# Altium footprint library Footprints.PcbLib: 111 footprints (part 6 of 7)
Each footprint in its own frame and in the unit in brackets; x right, y up, seen from the top. Pads: shape width x height; smd on the part's side, far side on the other; paste and mask are expansions set on the pad; w line width, h text height; cw(c..) or ccw(c..) is an arc to the next point about the centre after c.
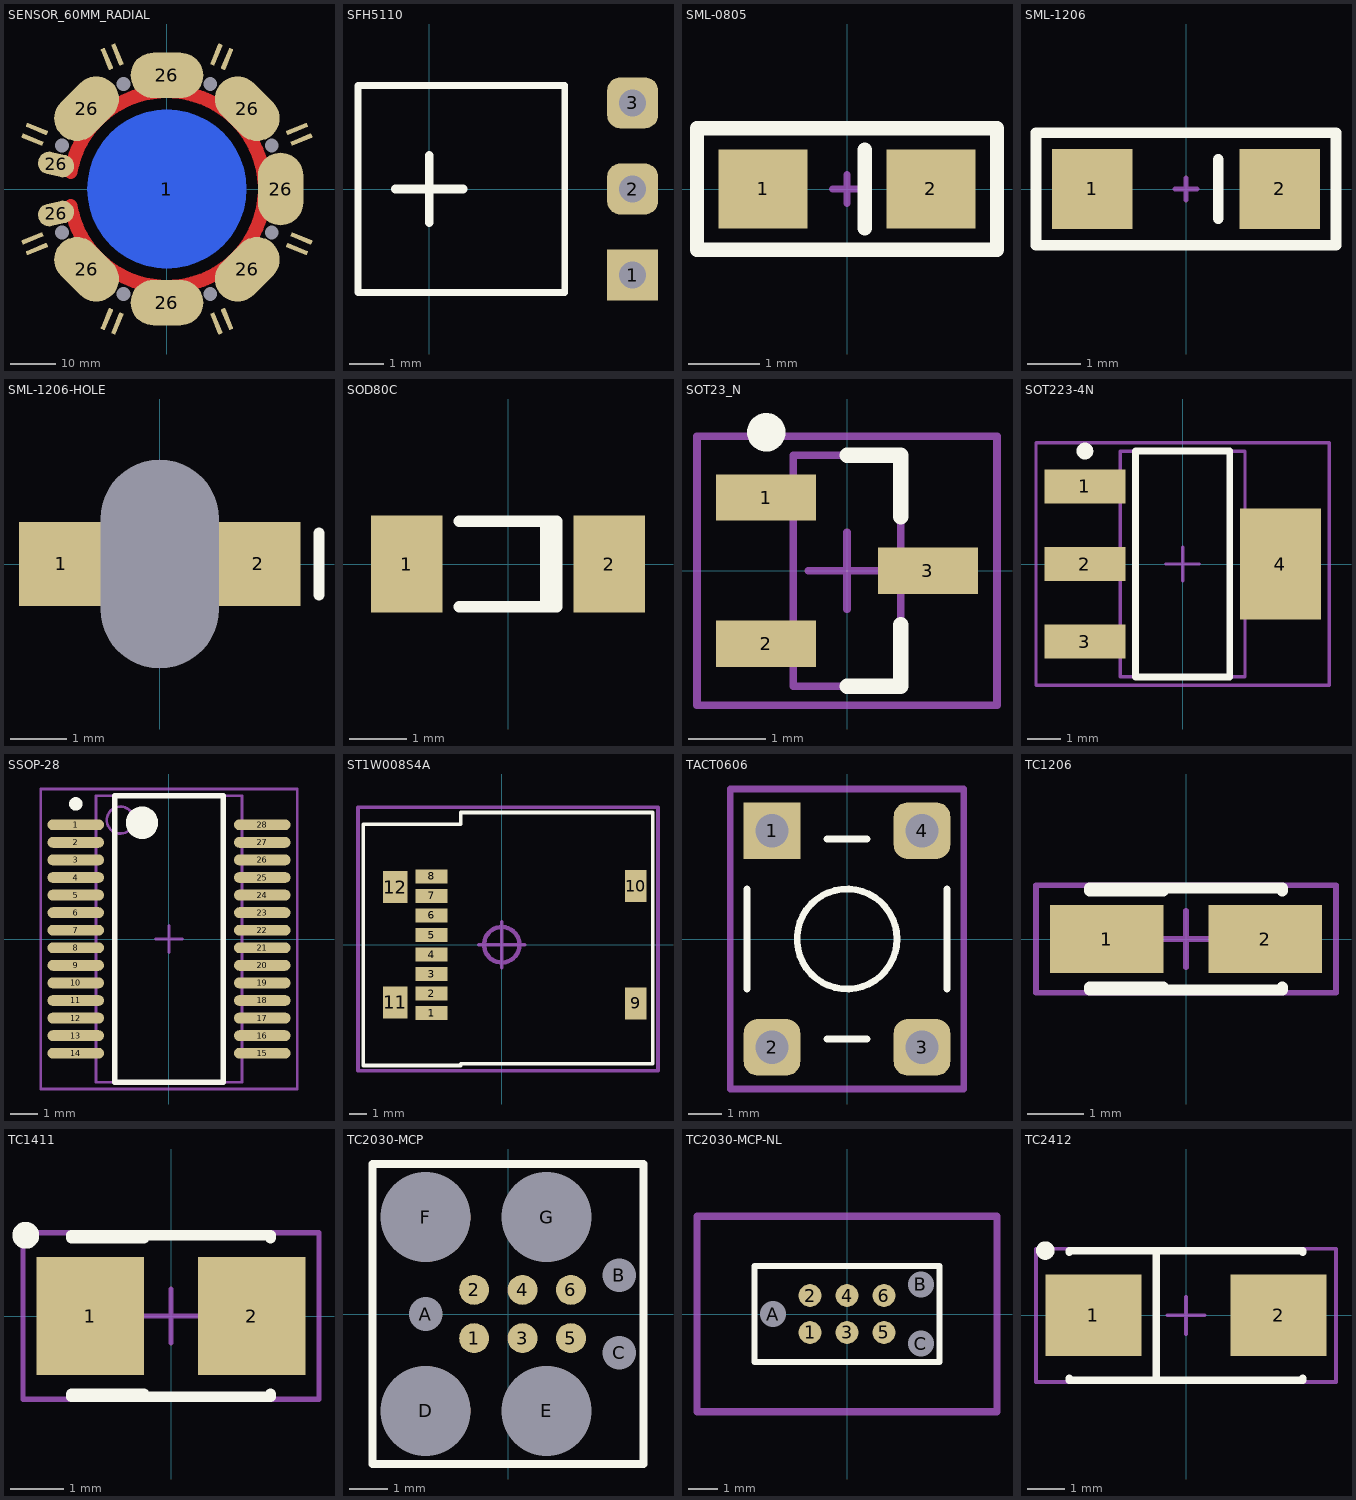
[diagram p5: the footprints below, top view; thin cyan lines are the x and y axes]

## SENSOR_60MM_RADIAL [mm]
pads (34):
  round 35 smd far side: 1(0,0)
  round 0 / inner round 0 / far side oval 18x10 hole 3 unplated: 2(-23.097,9.567) 5(-9.567,23.097) 8(9.567,23.097) 11(23.097,9.567) 14(23.097,-9.567) 17(9.567,-23.097) 20(-9.567,-23.097) 23(-23.097,-9.567)
  rrect50% 1x5 smd rot 67.5: 3(-29.588,10.881) 4(-28.616,13.228) 15(29.588,-10.881) 16(28.616,-13.228)
  rrect50% 1x5 smd rot 22.5: 6(-13.228,28.616) 7(-10.881,29.588) 18(13.228,-28.616) 19(10.881,-29.588)
  rrect50% 1x5 smd rot 157.5: 9(10.881,29.588) 10(13.228,28.616) 21(-10.881,-29.588) 22(-13.228,-28.616)
  rrect50% 1x5 smd rot 112.5: 12(28.616,13.228) 13(29.588,10.881) 24(-28.616,-13.228) 25(-29.588,-10.881)
  oval 5x8 smd rot 102.5: 26(-24.4,-5.4)
  oval 5x8 smd rot 77.5: 26(-24.4,5.4)
  oval 16x10 smd rot 135: 26(-17.678,-17.678) 26(17.678,17.678)
  oval 16x10 smd rot 45: 26(-17.678,17.678) 26(17.678,-17.678)
  oval 16x10 smd: 26(0,-25) 26(0,25)
  oval 10x16 smd: 26(25,0)
Top Layer:
  lines w3: -21.173,-3.733 ccw(c0,0) -21.173,3.733
3D body: height 2, standoff -1, extent -24.582,-11.061 -21.597,-8.073
3D body: height 2, standoff -1, extent -11.051,21.604 -8.067,24.591
3D body: height 2, standoff -1, extent 8.083,21.604 11.067,24.591
3D body: height 2, standoff -1, extent 21.613,8.074 24.598,11.061
3D body: height 2, standoff -1, extent 21.613,-11.061 24.597,-8.073
3D body: height 2, standoff -1, extent 8.083,-24.591 11.067,-21.604
3D body: height 2, standoff -1, extent -11.051,-24.59 -8.067,-21.603
3D body: height 2, standoff -1, extent -24.581,8.074 -21.597,11.061

## SFH5110 [mm] "IR-Receiver"
height 4.9
pads (3):
  rect 1.5x1.5 hole 0.8: 1(6,-2.54)
  rrect50% 1.5x1.5 hole 0.8: 2(6,0) 3(6,2.54)
Top Overlay:
  lines w0.2: -2.1,-3.05 -2.1,3.05 4,3.05 4,-3.05 -2.1,-3.05
  lines w0.254: -1,0 1,0 ; 0,-1 0,1
3D body: height 0.5, standoff 0, extent 4,2.29 6,2.789
3D body: height 0.5, standoff 0, extent 4,-0.25 6,0.249
3D body: height 0.5, standoff 0, extent 4,-2.79 6,-2.291
3D body: height 5.1, standoff 0.9, extent -2.1,-2.1 2.078,2.082
3D body: height 3, standoff 0, extent -2.1,-3.05 4,3.05

## SML-0805 [mm] "SM LED"
height 0.8
pads (2):
  rect 1.25x1.1 smd: 1(-1.175,0) 2(1.175,0)
Top Overlay:
  lines w0.2: 0.25,-0.55 0.25,0.55 ; -2.1,-0.85 -2.1,0.85 2.1,0.85 2.1,-0.85 -2.1,-0.85
Mechanical 1:
  lines w0.1: -0.2,0 0.2,0 ; 0,-0.2 0,0.2
3D body: height 0.8, standoff 0, extent -1.1,-0.625 1.1,0.625

## SML-1206 [mm] "SM LED"
height 1.1
pads (2):
  rect 1.5x1.5 smd: 1(-1.75,0) 2(1.75,0)
Top Overlay:
  lines w0.2: 0.6,-0.55 0.6,0.55 ; -2.8,-1.05 2.8,-1.05 2.8,1.05 -2.8,1.05 -2.8,-1.05
Mechanical 1:
  lines w0.1: -0.2,0 0.2,0 ; 0,-0.2 0,0.2
3D body: height 1.1, standoff 0, extent -1.6,-0.8 1.6,0.8

## SML-1206-HOLE [mm] "SM LED throw hole"
height 1.1
pads (3):
  round 0 hole 2.1 slot 3.7 at 90 deg unplated: 0(0,0)
  rect 1.5x1.5 smd: 1(-1.75,0) 2(1.75,0)
Top Overlay:
  lines w0.2: 2.83,-0.55 2.83,0.55
3D body: height 1.1, standoff 0, extent -1.6,-0.8 1.6,0.8

## SOD80C [mm] "Metal Electrode Face (MELF) Diode; Body 3.6 x 1.5 mm (LxDia)"
height 1.6
pads (2):
  rect 1.25x1.7 smd: 1(-1.775,0) 2(1.775,0)
Top Overlay:
  lines w0.2: -0.85,-0.75 0.85,-0.75 0.85,0.75 -0.85,0.75 ; 0.66,-0.75 0.66,0.75
3D body: height 1.49, standoff 0, extent -1.8,-0.75 1.8,0.747

## SOT23_N [mm] "SOT23, 3-Leads, Body 2.9x1.3mm, Pitch 0.95mm, Lead Span 2.3mm, IPC Medium Density"
height 1.1
pads (3):
  rect 1.3x0.6 smd: 1(-1.05,0.95) 2(-1.05,-0.95) 3(1.05,0)
Top Overlay:
  circle w0.25: c-1.05,1.8 r0.125
  lines w0.2: 0,-1.5 0.7,-1.5 0.7,-0.7 ; 0,1.5 0.7,1.5 0.7,0.7
Mechanical 1:
  lines w0.1: -0.7,-1.5 0.7,-1.5 0.7,1.5 -0.7,1.5 -0.7,-1.5
Mechanical 3:
  lines w0.1: -0.5,0 0.5,0 ; 0,-0.5 0,0.5 ; -1.95,-1.75 1.95,-1.75 1.95,1.75 -1.95,1.75 -1.95,-1.75
3D body: height 1.1, standoff 0, extent -0.7,-1.5 0.7,1.5

## SOT223-4N [mm] "SOT223, 4-Leads, Body 6.5x3.5mm, Pitch 2.3mm, Lead Span 7mm, IPC Medium Density"
height 1.8
pads (4):
  rect 2.4x1 smd: 1(-2.9,2.3) 2(-2.9,0) 3(-2.9,-2.3)
  rect 2.4x3.3 smd: 4(2.9,0)
Top Overlay:
  circle w0.25: c-2.9,3.35 r0.125
  lines w0.2: -1.4,-3.35 1.4,-3.35 1.4,3.35 -1.4,3.35 -1.4,-3.35
Mechanical 1:
  lines w0.1: -1.85,-3.35 1.85,-3.35 1.85,3.35 -1.85,3.35 -1.85,-3.35
Mechanical 3:
  lines w0.1: -0.5,0 0.5,0 ; 0,-0.5 0,0.5 ; -4.35,-3.6 4.35,-3.6 4.35,3.6 -4.35,3.6 -4.35,-3.6
3D body: height 1.8, standoff 0, extent -1.85,-3.35 1.85,3.35

## SSOP-28 [mm] "28-Pin SSOP 0.65 mm Pitch"
height 2
pads (28):
  oval 2.1x0.4 smd: 1(-3.45,4.225) 2(-3.45,3.575) 3(-3.45,2.925) 4(-3.45,2.275) 5(-3.45,1.625) 6(-3.45,0.975) 7(-3.45,0.325) 8(-3.45,-0.325) 9(-3.45,-0.975) 10(-3.45,-1.625) 11(-3.45,-2.275) 12(-3.45,-2.925) 13(-3.45,-3.575) 14(-3.45,-4.225) 15(3.45,-4.225) 16(3.45,-3.575) 17(3.45,-2.925) 18(3.45,-2.275) 19(3.45,-1.625) 20(3.45,-0.975) 21(3.45,-0.325) 22(3.45,0.325) 23(3.45,0.975) 24(3.45,1.625) 25(3.45,2.275) 26(3.45,2.925) 27(3.45,3.575) 28(3.45,4.225)
Top Overlay:
  circle w0.6: c-1,4.3 r0.3
  circle w0.25: c-3.45,5 r0.125
  lines w0.2: -2,-5.3 2,-5.3 2,5.3 -2,5.3 -2,-5.3
Mechanical 13:
  circle w0.1: c-1.8,4.4 r0.5
  lines w0.1: -2.7,-5.3 2.7,-5.3 2.7,5.3 -2.7,5.3 -2.7,-5.3
Mechanical 15:
  lines w0.1: -0.5,0 0.5,0 ; 0,-0.5 0,0.5 ; -4.75,-5.55 4.75,-5.55 4.75,5.55 -4.75,5.55 -4.75,-5.55
3D body: height 2, standoff 0, extent -2.7,-5.3 2.7,5.3

## ST1W008S4A [mm] "Trans Flash (MicroSD) memory card connector."
height 1.9
pads (12):
  rect 1.8x0.8 smd: 1(-3.95,-3.85) 2(-3.95,-2.75) 3(-3.95,-1.65) 4(-3.95,-0.55) 5(-3.95,0.55) 6(-3.95,1.65) 7(-3.95,2.75) 8(-3.95,3.85)
  rect 1.2x1.8 smd: 9(7.55,-3.3) 10(7.55,3.3)
  rect 1.4x1.8 smd: 11(-6,-3.25) 12(-6,3.25)
Top Overlay:
  lines w0.2: -7.8,-6.8 -7.8,6.8 -2.3,6.8 -2.3,7.45 8.5,7.45 8.5,-6.7 -2.3,-6.7 -2.3,-6.8 -7.8,-6.8
  text "." at -4.03,-5.15 h1
Mechanical 3:
  circle w0.25: c0,0 r1
  lines w0.2: -1.3,0 1.3,0 ; 0,-1.3 0,1.3 ; -8.1,-7.1 8.8,-7.1 8.8,7.75 -8.1,7.75 -8.1,-7.1
3D body: height 1.9, standoff 0, extent -7.8,-6.8 -2.3,6.8
3D body: height 1.9, standoff 0, extent -2.3,-6.7 8.5,7.45

## TACT0606 [mm] "TACT switch 6x6mm"
height 9
pads (4):
  rect 1.7x1.7 hole 1: 1(-2.25,3.25)
  rrect50% 1.7x1.7 hole 1: 2(-2.25,-3.25) 3(2.25,-3.25) 4(2.25,3.25)
Top Overlay:
  circle w0.2: c0,0 r1.5
  lines w0.2: -3,-1.5 -3,1.5 ; -0.6,-3 0.6,-3 ; -0.6,3 0.6,3 ; 3,-1.5 3,1.5
Mechanical 3:
  lines w0.2: -3.5,-4.5 -3.5,4.5 3.5,4.5 3.5,-4.5 -3.5,-4.5
3D body: height 9, standoff 0, extent -1.488,-1.497 1.5,1.497
3D body: height 2.54, standoff 0, extent -3,-3 3,3

## TC1206 [mm] "Capacitor, SM Tantalum; Body 3.2 x 1.6 mm (LxW typ)"
height 2.2
pads (2):
  rect 2x1.2 smd: 1(-1.4,0) 2(1.4,0)
Top Overlay:
  lines w0.2: -1.7,-0.9 1.7,-0.9 1.7,-0.85 ; -1.7,-0.85 -0.4,-0.85 ; -1.7,0.85 -0.4,0.85 ; -1.7,0.9 1.7,0.9 1.7,0.85
Mechanical 3:
  lines w0.1: -0.5,0 0.5,0 ; 0,-0.5 0,0.5 ; -2.65,-0.95 2.65,-0.95 2.65,0.95 -2.65,0.95 -2.65,-0.95
3D body: height 2.2, standoff 0, extent -1.6,-0.8 1.6,0.8

## TC1411 [mm] "Capacitor, SM Tantalum; Body 3.5 x 2.8 mm (LxW typ)"
height 2.5
pads (2):
  rect 2x2.2 smd: 1(-1.5,0) 2(1.5,0)
Top Overlay:
  circle w0.25: c-2.7,1.5 r0.125
  lines w0.2: -1.85,-1.5 1.85,-1.5 1.85,-1.45 ; -1.85,-1.45 -0.5,-1.45 ; -1.85,1.45 -0.5,1.45 ; -1.85,1.5 1.85,1.5 1.85,1.45
Mechanical 3:
  lines w0.1: -0.5,0 0.5,0 ; 0,-0.5 0,0.5 ; -2.75,-1.55 -2.75,1.55 2.75,1.55 2.75,-1.55 -2.75,-1.55
3D body: height 2.5, standoff 0, extent -1.75,-1.4 1.75,1.4

## TC2030-MCP [mil]
pads (13):
  round 31 smd paste-40: 1(-35,-25) 2(-35,25) 3(15,-25) 4(15,25) 5(65,-25) 6(65,25)
  round 34 hole 35 unplated: A(-85,0) B(115,40) C(115,-40)
  round 92 hole 93 unplated: D(-85,-100) E(40,-100) F(-85,100) G(40,100)
Top Overlay:
  lines w7.87: -140,-155 -140,155 140,155 140,-155 -140,-155

## TC2030-MCP-NL [mil]
pads (9):
  round 31 smd paste-40: 1(-50,-25) 2(-50,25) 3(0,-25) 4(0,25) 5(50,-25) 6(50,25)
  round 34 hole 35 unplated: A(-100,0) B(100,40) C(100,-40)
Top Overlay:
  lines w7.87: -125,-65 125,-65 125,65 -125,65 -125,-65
Mechanical 3:
  lines w10: -202.76,-131.89 -202.76,131.89 202.76,131.89 202.76,-131.89 -202.76,-131.89

## TC2412 [mm] "Capacitor, SM Tantalum; Body 6.0 x 3.2 mm (LxW typ)"
height 3.4
pads (2):
  rect 2.6x2.2 smd: 1(-2.5,0) 2(2.5,0)
Top Overlay:
  circle w0.25: c-3.8,1.75 r0.125
  lines w0.2: -3.15,-1.7 -3.15,-1.75 3.15,-1.75 3.15,-1.7 ; -3.15,1.7 -3.15,1.75 3.15,1.75 3.15,1.7 ; -0.8,-1.75 -0.8,1.75
Mechanical 3:
  lines w0.1: -0.5,0 0.5,0 ; 0,-0.5 0,0.5 ; -4.05,-1.8 -4.05,1.8 4.05,1.8 4.05,-1.8 -4.05,-1.8
3D body: height 3.4, standoff 0, extent -3,-1.6 3,1.6